# Altium footprint library SOT.PcbLib: 12 footprints
Each footprint in its own frame and in the unit in brackets; x right, y up, seen from the top. Pads: shape width x height; smd on the part's side, far side on the other; paste and mask are expansions set on the pad; w line width, h text height; cw(c..) or ccw(c..) is an arc to the next point about the centre after c.
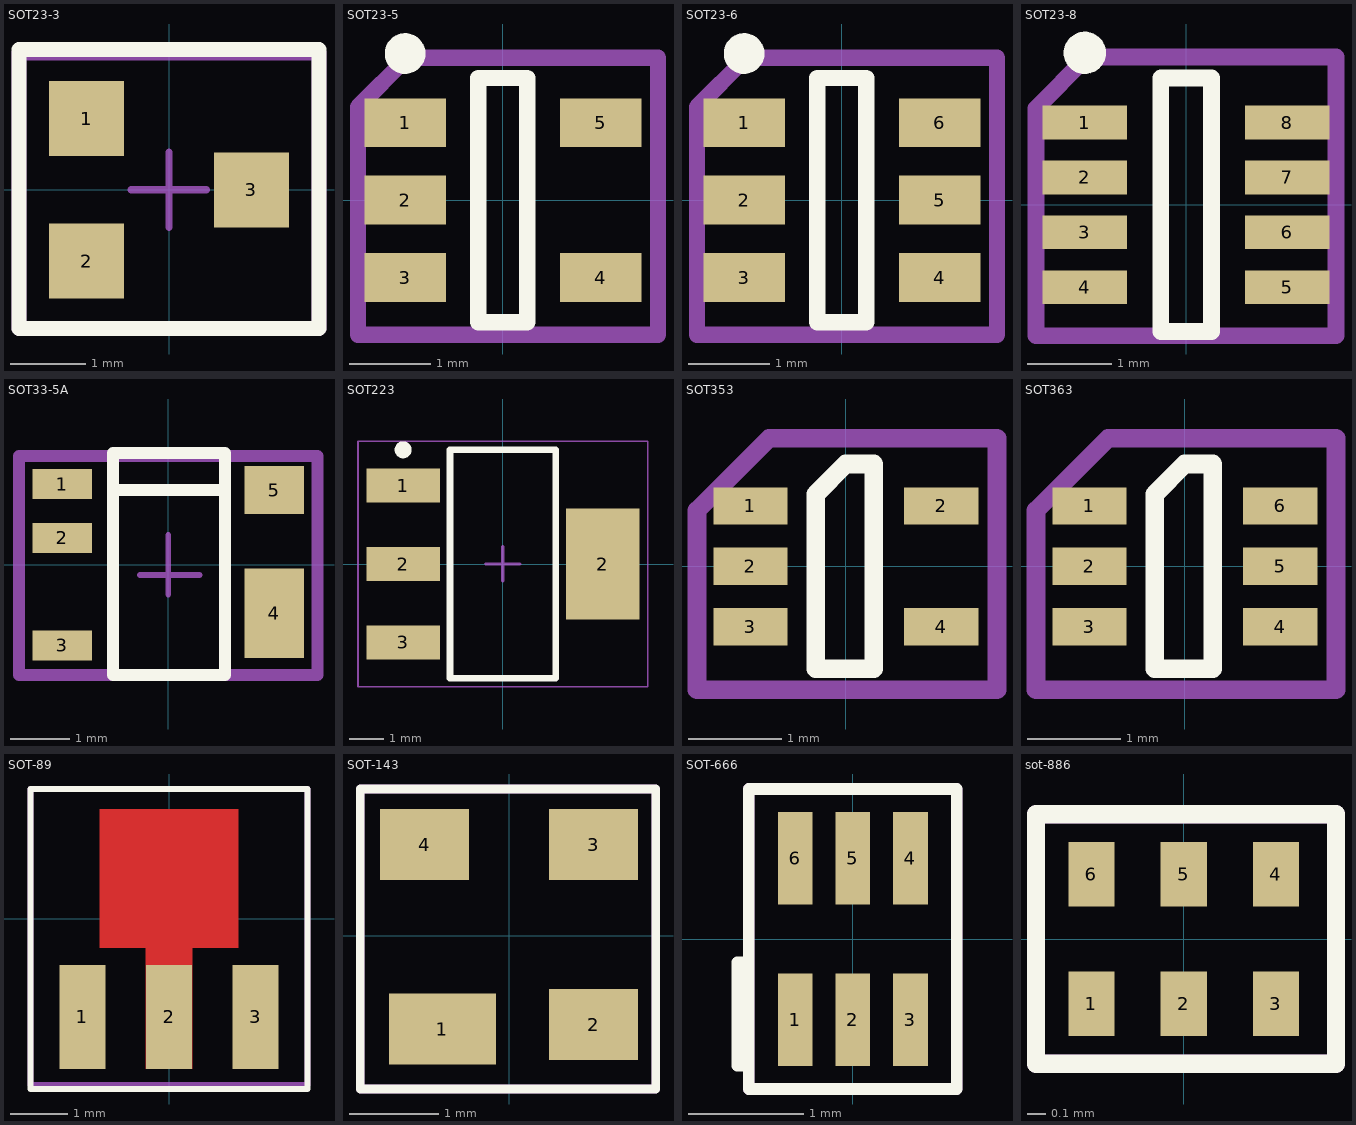
[diagram p0: the footprints below, top view; thin cyan lines are the x and y axes]

## SOT23-3 [mm]
pads (3):
  rect 1x1 smd: 1(-1.1,0.95) 2(-1.1,-0.95) 3(1.1,0)
Top Overlay:
  lines w0.2: -2,-1.85 2,-1.85 2,1.875 -2,1.875 -2,-1.85
Top Assy:
  lines w0.2: -2,-1.85 -2,1.825 2,1.825 2,-1.85 -2,-1.85
  text ".Designator" at -1.5,-0.4 h1.52
Mechanical 15:
  lines w0.1: -0.5,0 0.5,0 ; 0,-0.5 0,0.5
3D body "SOT23-3.STEP": height 1.05, standoff -0.05, extent -1.25,-1.5 1.25,1.5

## SOT23-5 [mm] "SOT23, 6-Leads, Body 2,90x2,45mm, Pitch 0,95mm, IPC Medium Density"
height 1.1
pads (5):
  rect 1x0.6 smd: 1(-1.2,0.95) 2(-1.2,0) 3(-1.2,-0.95) 4(1.2,-0.95) 5(1.2,0.95)
Top Overlay:
  circle w0.25: c-1.2,1.8 r0.125
  lines w0.2: -0.3,-1.5 -0.3,1.5 0.3,1.5 0.3,-1.5 -0.3,-1.5
Top Assy:
  lines w0.2: -1.778,-1.651 1.905,-1.651 1.905,1.749 -1.172,1.749 -1.778,1.143 -1.778,-1.651
  text ".Designator" at -1.378,-0.351 h1.52
3D body "SOT23-5.STEP": height 1.05, standoff -0.05, extent -1.25,-1.5 1.25,1.5

## SOT23-6 [mm] "SOT23, 6-Leads, Body 2,90x2,45mm, Pitch 0,95mm, IPC Medium Density"
height 1.1
pads (6):
  rect 1x0.6 smd: 1(-1.2,0.95) 2(-1.2,0) 3(-1.2,-0.95) 4(1.2,-0.95) 5(1.2,0) 6(1.2,0.95)
Top Overlay:
  circle w0.25: c-1.2,1.8 r0.125
  lines w0.2: -0.3,-1.5 -0.3,1.5 0.3,1.5 0.3,-1.5 -0.3,-1.5
Top Assy:
  lines w0.2: -1.778,-1.651 1.905,-1.651 1.905,1.749 -1.172,1.749 -1.778,1.143 -1.778,-1.651
  text ".Designator" at -1.378,-0.351 h1.52
3D body "SOT23-6.STEP": height 1.1, standoff 0, extent -1.3,-1.5 1.3,1.5

## SOT23-8 [mm] "SOT23, 6-Leads, Body 2,90x2,45mm, Pitch 0,95mm, IPC Medium Density"
height 1.1
pads (8):
  rect 1x0.4 smd: 1(-1.2,0.975) 2(-1.2,0.325) 3(-1.2,-0.325) 4(-1.2,-0.975) 5(1.2,-0.975) 6(1.2,-0.325) 7(1.2,0.325) 8(1.2,0.975)
Top Overlay:
  circle w0.25: c-1.2,1.8 r0.125
  lines w0.2: -0.3,-1.5 0.3,-1.5 0.3,1.5 -0.3,1.5 -0.3,-1.5
Top Assy:
  lines w0.2: -1.778,-1.55 -1.778,1.143 -1.172,1.749 1.775,1.749 1.775,-1.55 -1.778,-1.55
  text ".Designator" at -1.378,-0.351 h1.52
3D body "SOT-23-8 Thin.step": height 1.1, standoff 0, extent -1.48,-1.45 1.478,1.45

## SOT33-5A [mm]
pads (5):
  rect 1x0.5 smd: 1(-1.775,1.35) 2(-1.775,0.45) 3(-1.775,-1.35)
  rect 1x1.5 smd: 4(1.775,-0.81)
  rect 1x0.8 smd: 5(1.775,1.25)
Top Overlay:
  lines w0.2: -0.925,1.25 0.95,1.25 ; -0.925,-1.85 -0.925,1.875 0.95,1.875 0.95,-1.85 -0.925,-1.85
Top Assy:
  lines w0.2: -2.5,-1.85 2.5,-1.85 2.5,1.825 -2.5,1.825 -2.5,-1.85
  text ".Designator" at -1.5,-0.4 h1.52
Mechanical 15:
  lines w0.1: -0.475,-0.175 0.525,-0.175 ; 0,-0.5 0,0.5
3D body "SOT33-5A.stp": height 1.3, standoff -0.03, extent -2.007,-1.937 2.007,1.95

## SOT223 [mm]
height 1.8
pads (4):
  rect 2.15x1 smd: 1(-2.925,2.3) 2(-2.925,0) 3(-2.925,-2.3)
  rect 2.15x3.25 smd: 2(2.925,0)
Top Overlay:
  circle w0.25: c-2.925,3.35 r0.125
  lines w0.2: -1.55,-3.35 -1.55,3.35 1.55,3.35 1.55,-3.35 -1.55,-3.35
Top Assy:
  lines w0.05: -4.25,-3.6 -4.25,3.6 4.25,3.6 4.25,-3.6 -4.25,-3.6
  text ".Designator" at -0.575,2.975 h1.52
Mechanical 15:
  lines w0.1: -0.5,0 0.5,0 ; 0,-0.5 0,0.5
3D body "SOT-223.step": height 1.64, standoff -0.01, extent -3.5,-3.15 3.5,3.35

## SOT353 [mm] "SOT23, 6-Leads, Body 2,90x2,45mm, Pitch 0,95mm, IPC Medium Density"
height 1.1
pads (5):
  rect 0.8x0.4 smd: 1(-1.025,0.65) 2(-1.025,0) 2(1.025,0.65) 3(-1.025,-0.65) 4(1.025,-0.65)
Top Overlay:
  lines w0.2: -0.325,-1.1 0.3,-1.1 0.3,1.1 0,1.1 -0.325,0.775 -0.325,-1.1
Top Assy:
  lines w0.2: -1.6,-1.325 -1.6,0.6 -0.825,1.375 1.625,1.375 1.625,-1.325 -1.6,-1.325
  text ".Designator" at -1.378,-0.351 h1.52
3D body "sot353.step": height 1, standoff 0, extent -1.15,-1.05 1.15,1.05

## SOT363 [mm] "SOT23, 6-Leads, Body 2,90x2,45mm, Pitch 0,95mm, IPC Medium Density"
height 1.1
pads (6):
  rect 0.8x0.4 smd: 1(-1.025,0.65) 2(-1.025,0) 3(-1.025,-0.65) 4(1.025,-0.65) 5(1.025,0) 6(1.025,0.65)
Top Overlay:
  lines w0.2: -0.325,-1.1 0.3,-1.1 0.3,1.1 0,1.1 -0.325,0.775 -0.325,-1.1
Top Assy:
  lines w0.2: -1.6,-1.325 -1.6,0.6 -0.825,1.375 1.625,1.375 1.625,-1.325 -1.6,-1.325
  text ".Designator" at -1.378,-0.351 h1.52
3D body "sot363.step": height 1, standoff 0, extent -1.15,-1.05 1.15,1.05

## SOT-89 [mm]
pads (3):
  rect 0.8x1.8 smd: 1(-1.5,-1.7) 2(0,-1.7) 3(1.5,-1.7)
Top Layer:
  region: -1.2,-0.5 -0.4,-0.5 -0.4,-2.6 0.4,-2.6 0.4,-0.5 1.2,-0.5 1.2,1.9 -1.2,1.9
Top Overlay:
  lines w0.1: -2.4,-2.95 -2.4,2.25 2.4,2.25 2.4,-2.95 -2.4,-2.95
Top Assy:
  lines w0.1: -2.4,-2.875 2.4,-2.875 2.4,2.25 -2.4,2.25 -2.4,-2.875
  text ".Designator" at -1.3,-0.8 h1.52
3D body "SOT-89.step": height 1.5, standoff 0, extent -2.25,-2.25 2.25,1.75

## SOT-143 [mm]
pads (4):
  rect 1.2x0.8 smd: 1(-0.75,-1.05)
  rect 1x0.8 smd: 2(0.95,-1) 3(0.95,1.025) 4(-0.95,1.025)
Top Overlay:
  lines w0.1: -1.675,-1.725 -1.675,1.65 1.65,1.65 1.65,-1.725 -1.675,-1.725
Top Assy:
  lines w0.1: -1.675,-1.725 1.65,-1.725 1.65,1.65 -1.675,1.65 -1.675,-1.725
  text ".Designator" at -1.3,-0.8 h1.52
3D body "SOT-143.step": height 1, standoff 0, extent -1.46,-1.21 1.46,1.21

## SOT-666 [mm]
pads (6):
  rect 0.3x0.8 smd: 1(-0.5,-0.7) 2(0,-0.7) 3(0.5,-0.7) 4(0.5,0.7) 5(0,0.7) 6(-0.5,0.7)
Top Overlay:
  lines w0.1: -0.9,-1.1 -1,-1.1 -1,-0.2 -0.9,-0.2 ; -0.9,-1.3 0.9,-1.3 0.9,1.3 -0.9,1.3 -0.9,-1.3
Top Assy:
  lines w0.1: -0.9,-1.3 -0.9,1.3 0.9,1.3 0.9,-1.3 -0.9,-1.3
  text ".Designator" at -0.7,-0.1 h1.52
3D body "SOT-666.step": height 0.6, standoff 0, extent -0.795,-0.8 0.796,0.8

## sot-886 [mm]
pads (6):
  rect 0.25x0.35 smd: 1(-0.5,-0.35) 2(0,-0.35) 3(0.5,-0.35) 4(0.5,0.35) 5(0,0.35) 6(-0.5,0.35)
Top Overlay:
  lines w0.1: -0.8,-0.675 0.825,-0.675 0.825,0.675 -0.8,0.675 -0.8,-0.675
Top Assy:
  lines w0.1: -0.8,-0.675 -0.8,0.675 0.825,0.675 0.825,-0.675 -0.8,-0.675
  text ".Designator" at -0.475,-0.3 h1.52
3D body "SOT886 (XSON6).step": height 0.46, standoff -0.04, extent -0.75,-0.525 0.75,0.525